# EAGLE library part MOLEX_5023860670 (library My_MolexConn)
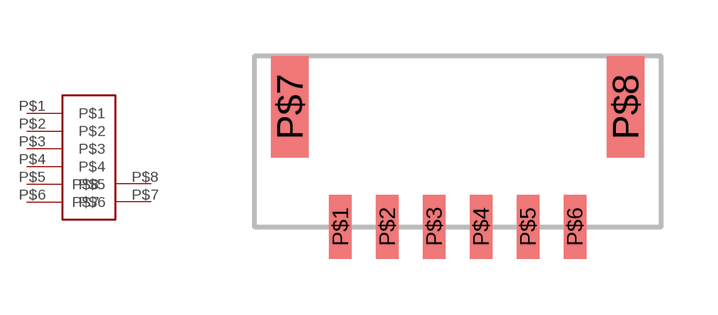
[diagram p0: symbol with the pads of MOLEX_5023860670; footprint MOLEX_5023860670]

Designator prefix -

## MOLEX_5023860670  [MOLEX_5023860670]
P$1  P$1
P$2  P$2
P$3  P$3
P$4  P$4
P$5  P$5
P$6  P$6
P$7  P$7
P$8  P$8

## Footprint MOLEX_5023860670 (pad centres in mm)
smd 0.6 x 1.7: P$1 -3.125,0; P$2 -1.875,0; P$3 -0.625,0; P$4 0.625,0; P$5 1.875,0; P$6 3.125,0
smd 1 x 2.7: P$7 -4.475,3.2; P$8 4.475,3.2